# EAGLE library part LT1787* (library wolfi)
Precision, High Side Current Sense Amplifiers
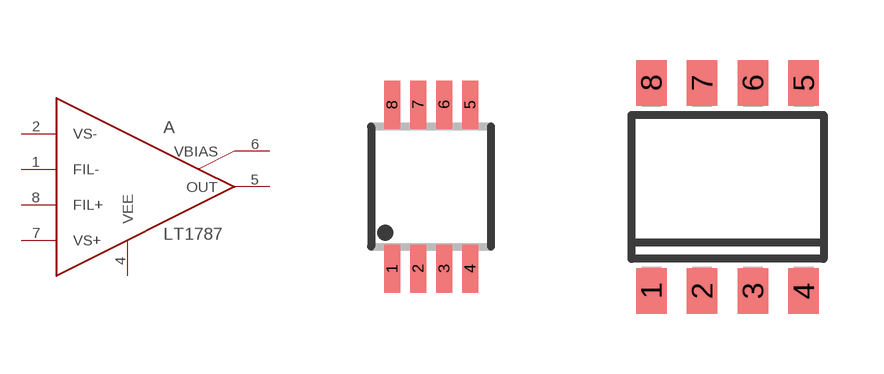
[diagram p19: symbol with the pads of MSOP8; footprints MSOP8, S8]

Designator prefix A

## LT1787CMS8, LT1787HVCMS8, LT1787HVIMS8, LT1787IMS8  [MSOP8]
1  FIL-  pas
2  VS-  in
4  VEE  sup
5  OUT  out
6  VBIAS  in
7  VS+  in
8  FIL+  pas

## LT1787CS8, LT1787HS8, LT1787HVCS8, LT1787HVHS8, LT1787HVIS8, LT1787IS8  [S8]
Pads as for MSOP8

## Footprint MSOP8 (pad centres in mm)
MSOP8
smd 0.4 x 1.2: 1 -0.975,-2.05; 2 -0.325,-2.05; 3 0.325,-2.05; 4 0.975,-2.05; 5 0.975,2.05; 6 0.325,2.05; 7 -0.325,2.05; 8 -0.975,2.05

## Footprint S8 (pad centres in mm)
8-Lead Plastic Small Outline Narrow .150 Inch Source: http://cds.linear.com/docs/Datasheet/623012fb.pdf
smd 0.762 x 1.143: 1 -1.905,-2.6; 2 -0.635,-2.6; 3 0.635,-2.6; 4 1.905,-2.6; 5 1.905,2.6; 6 0.635,2.6; 7 -0.635,2.6; 8 -1.905,2.6